# Altium footprint library 223-2142.PCBLIB: 1 footprints
Each footprint in its own frame and in the unit in brackets; x right, y up, seen from the top. Pads: shape width x height; smd on the part's side, far side on the other; paste and mask are expansions set on the pad; w line width, h text height; cw(c..) or ccw(c..) is an arc to the next point about the centre after c.
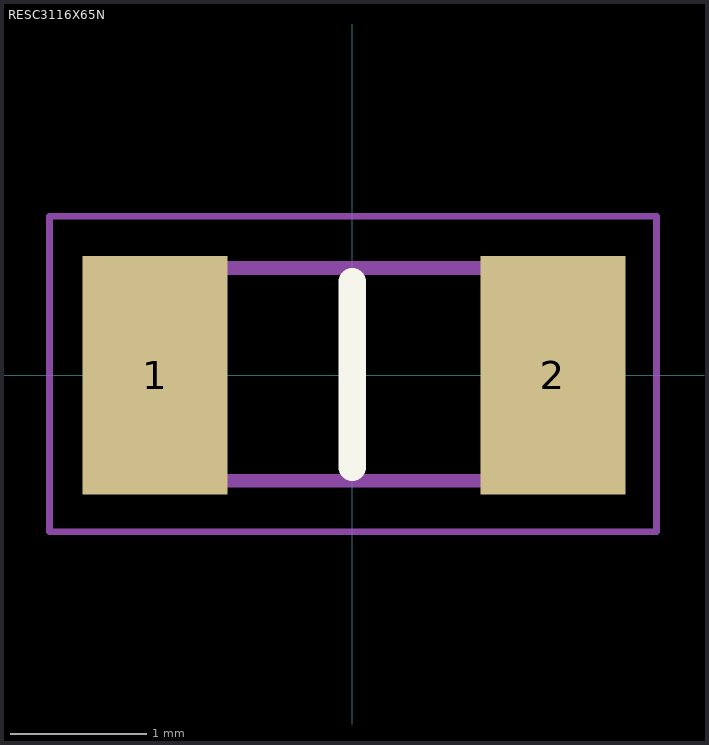
[diagram p0: the footprint, top view; thin cyan lines are the x and y axes]

## RESC3116X65N [mil]
pads (2):
  rect 42x69 smd: 1(-57.09,0) 2(58,0)
Top Overlay:
  lines w8: 0,-26.57 0,27
Courtyard Bottom:
  lines w2: -87.6,-45.28 88,-45.28 88,46 -87.6,46 -87.6,-45.28
  lines w4: -61.02,-30.51 62,-30.51 62,31 -61.02,31 -61.02,-30.51